# Altium schematic symbol library SCH - FET - N-CH - ON SEMI MOSFET N-CH SOT-23.Schlib: 1 symbol
Pins are listed as number, name and electrical type; pins without a type are passive.

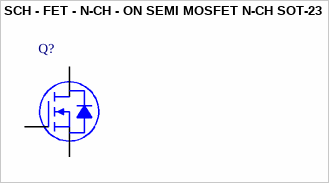
[diagram p0: symbol SCH - FET - N-CH - ON SEMI MOSFET N-CH SOT-23]

## SCH - FET - N-CH - ON SEMI MOSFET N-CH SOT-23
designator Q?
footprint SOT23_L GSD (SOT23, 3-Leads, Body 2.9x1.3mm, Pitch 0.95mm, Lead Span 2.3mm, IPC High Density)
pins: 1 G, 2 S, 3 D